# EAGLE library part 68801011622 (library Wuerth_Elektronik_eiCan_Wire_to_Board_Connectors v1.2)
WR-WTB 2.50mm "J" Type Vertical Male Shrouded Header, 10 Pins
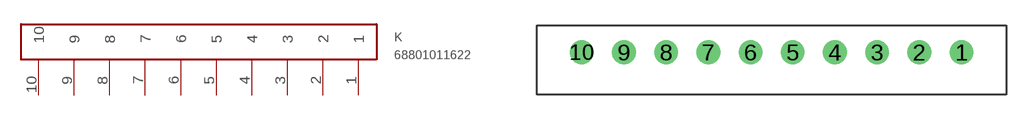
[diagram p17: symbol with the pads of 68801011622; footprint 68801011622]

Designator prefix K

## 68801011622  [68801011622]
1  1
2  2
3  3
4  4
5  5
6  6
7  7
8  8
9  9
10  10

## Footprint 68801011622 (pad centres in mm)
WR-WTB 2.50mm "J" Type Vertical Male Shrouded Header, 10 Pins
drill 0.9 round: 1 1.25,0; 2 -1.25,0; 3 -3.75,0; 4 -6.25,0; 5 -8.75,0; 6 -11.25,0; 7 -13.75,0; 8 -16.25,0; 9 -18.75,0; 10 -21.25,0